# Altium schematic symbol library 47346-1001.SchLib: 1 symbol
Pins are listed as number, name and electrical type; pins without a type are passive.

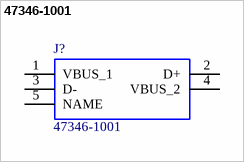
[diagram p0: symbol 47346-1001]

## 47346-1001
designator J?
MOLEX - 47346-1001 - MULTIPOLE CONNECTOR; Manufacturer_Name: Molex; Manufacturer_Part_Number: 47346-1001; RS Part Number: *; RS Price/Stock: *; Arrow Part Number: 47346-1001; Arrow Price/Stock: *; Datasheet Link: http://www.molex.com/webdocs/datasheets/pdf/en-us/0473461001_IO_CONNECTORS.pdf
footprint 47346-0001
pins: 1 VBUS_1, 2 D+, 3 D-, 4 VBUS_2, 5 NAME